# EAGLE library part PE_H110X (library JLB6_smd)
Ethernet Pulse transformer 10/100BT (Pe:H1102, Wurth:749010012)
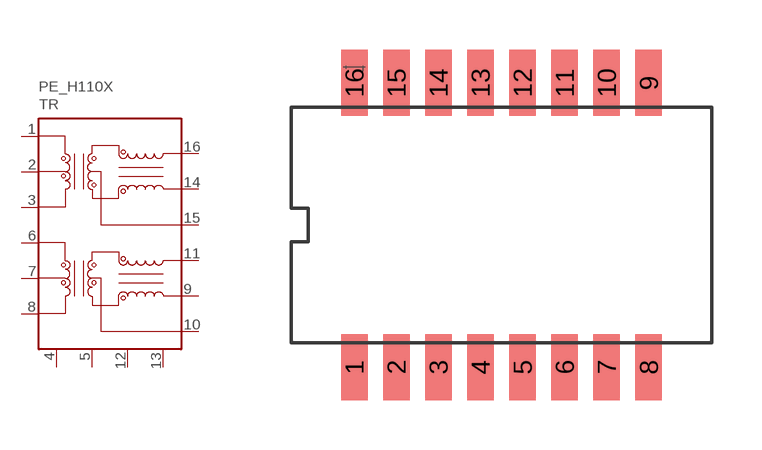
[diagram p0: symbol with the pads of PE_H11XX; footprint PE_H11XX]

Designator prefix TR

## PE_H110X-SO16  [PE_H11XX]
1  1  pas
2  2  pas
3  3  pas
4  P$1  nc
5  P$2  nc
6  6  pas
7  7  pas
8  8  pas
9  9  pas
10  10  pas
11  11  pas
12  P$3  nc
13  P$4  nc
14  14  pas
15  15  pas
16  16  pas

## Footprint PE_H11XX (pad centres in mm)
smd 0.8 x 2: 1 -4.445,-4.293; 2 -3.175,-4.293; 3 -1.905,-4.293; 4 -0.635,-4.293; 5 0.635,-4.293; 6 1.905,-4.293; 7 3.175,-4.293; 8 4.445,-4.293; 9 4.445,4.293; 10 3.175,4.293; 11 1.905,4.293; 12 0.635,4.293; 13 -0.635,4.293; 14 -1.905,4.293; 15 -3.175,4.293; 16 -4.445,4.293